# EAGLE library part DOG-M163 (library dogM)
TECHNICAL DATA * HIGH-CONTRAST LCD SUPERTWIST DISPLAY * OPTIONAL LED BACKLIGHT UNITS IN DIFFERENT COLORS * 1x8, 2x16 AND 3x16 WITH 12.0 mm / 5.6 mm AND 3.6 mm CHARACTER HEIGHT * ST 7036 CONTROLLER FOR 4-BIT, 8-BIT AND SPI (4-WIRE) INTERFACE * POWER SUPPLY +3.3V OR +5V SINGLE SUPPLY (typically 250μA) * NO ADDITIONAL VOLTAGES REQUIRED * OPERATING TEMPERATURE RANGE -20 THROUGH +70°C * LED BACKLIGHT 3 through 80mA@3.3V or 2 through 40mA@5V * NO MOUNTING REQUIRED, SIMPLY SOLDER INTO PCB ORDERING CODE LCD MODULE 1x8 - 11.97mm EA DOGM081x-A LCD MODULE 2X16 - 5.57 mm EA DOGM162x-A LCD MODULE 3X16 - 3.65mm EA DOGM163x-A
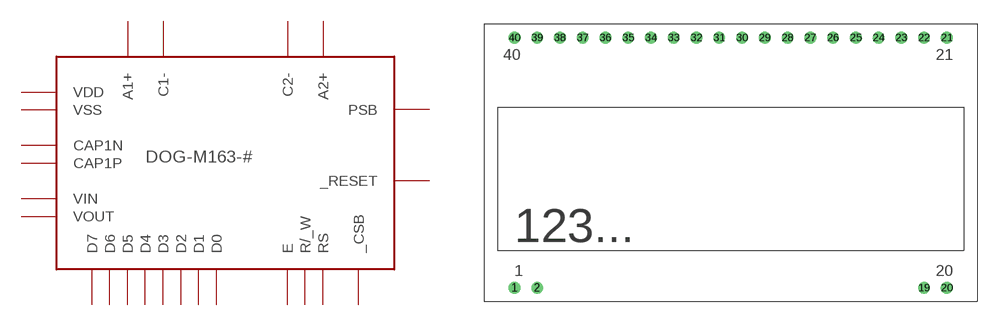
[diagram p0: symbol with the pads of DOG-M163; footprint DOG-M163]

Designator prefix DOG-M163-#

## DOG-M163  [DOG-M163]
1  A1+
2  C1-
19  C2-
20  A2+
21  CAP1N
22  CAP1P
23  PSB
24  VOUT
25  VIN
26  VDD
27  VSS
28  D7
29  D6
30  D5
31  D4
32  D3
33  D2
34  D1
35  D0
36  E
37  R/_W
38  _CSB
39  RS
40  _RESET

## Footprint DOG-M163 (pad centres in mm)
DOG-SERIE 3,3V INKL. KONTROLLER FÜR 4-/8-BIT, SPI, DOG-M163
drill 0.8: 1 -24.13,-13.97; 2 -21.59,-13.97; 19 21.59,-13.97; 20 24.13,-13.97; 21 24.13,13.97; 22 21.59,13.97; 23 19.05,13.97; 24 16.51,13.97; 25 13.97,13.97; 26 11.43,13.97; 27 8.89,13.97; 28 6.35,13.97; 29 3.81,13.97; 30 1.27,13.97; 31 -1.27,13.97; 32 -3.81,13.97; 33 -6.35,13.97; 34 -8.89,13.97; 35 -11.43,13.97; 36 -13.97,13.97; 37 -16.51,13.97; 38 -19.05,13.97; 39 -21.59,13.97; 40 -24.13,13.97